# Altium integrated library Linear Technology Power Management Battery Management.IntLib: 626 symbols (part 11 of 56)
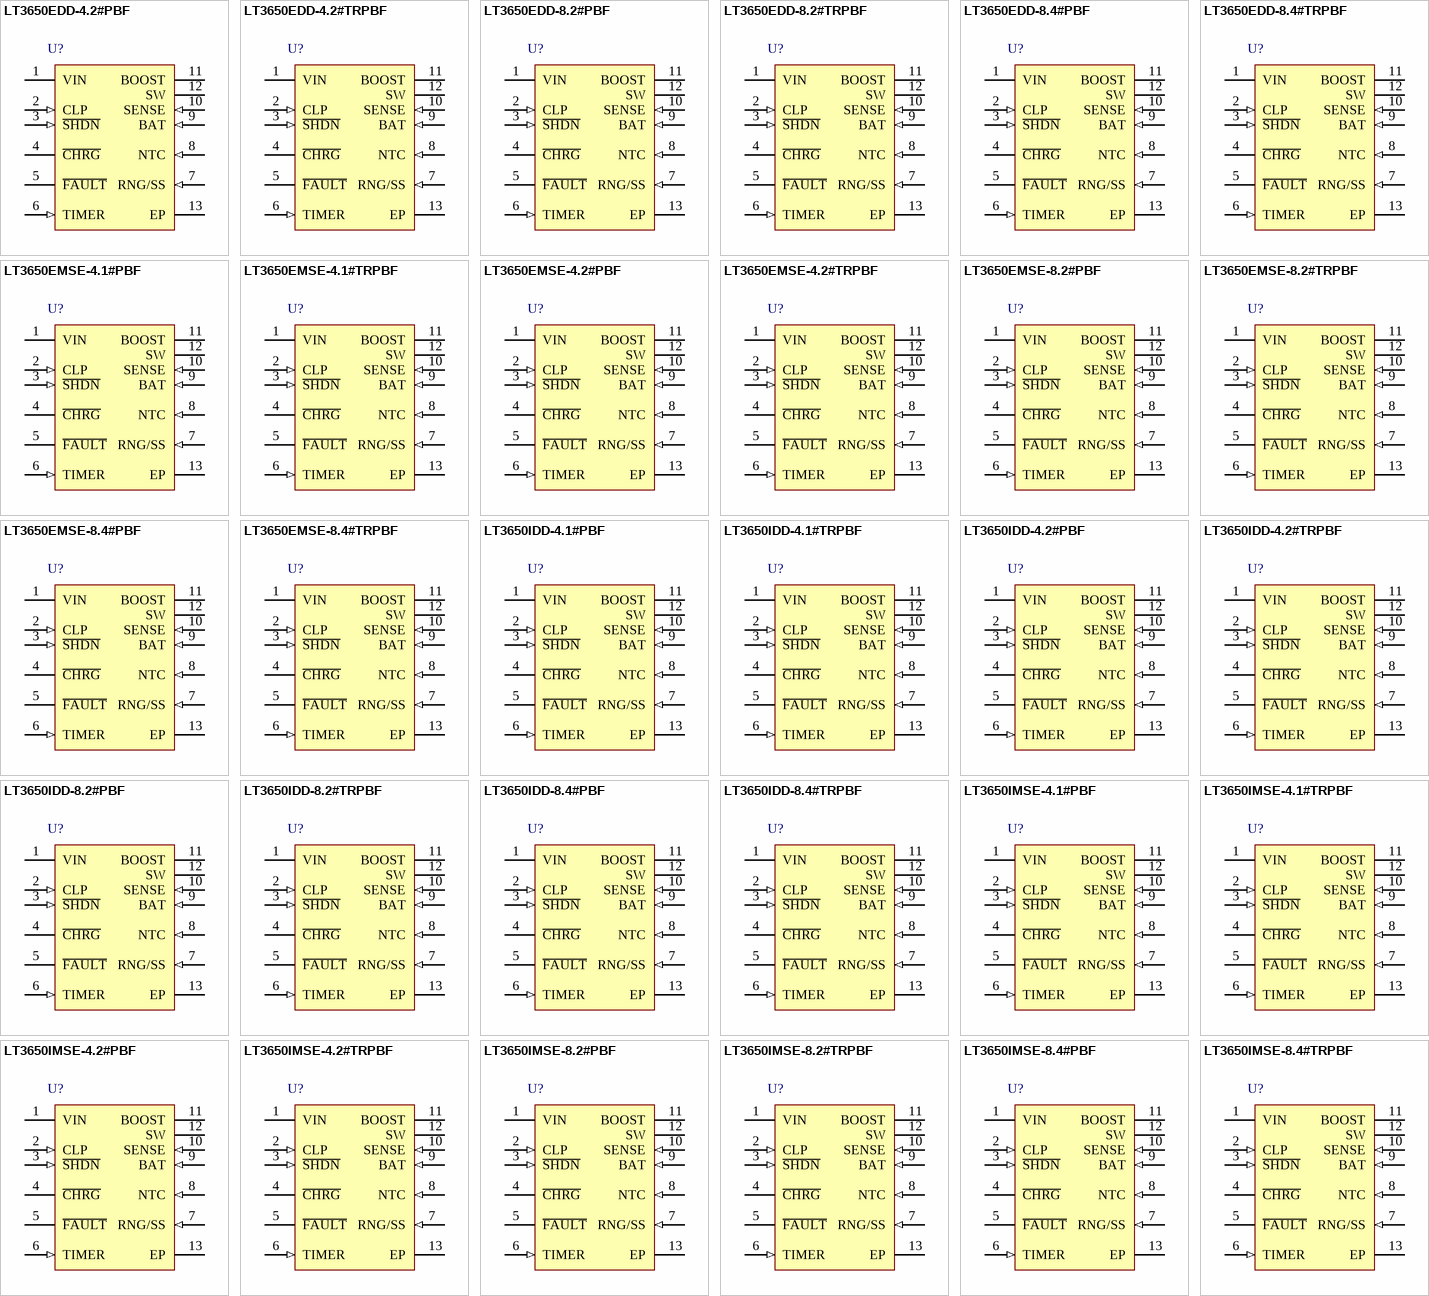
[diagram p32: symbols LT3650EDD-4.2#PBF to LT3650IMSE-8.4#TRPBF]

## LT3650EDD-8.2#PBF
designator U?
High Voltage 2 Amplifier Monolithic 2-Cell Li-Ion Battery Charger, 9 to 32 V Vin, 12-pin SON (DD-12), -40 to 85 degC, Pb-Free; Manufacturer: Linear Technology; PartNumber: LT3650EDD-8.2#PBF; Battery Chemistry: Li-Ion, Li-Polymer; Charge Termination: C/10, Timer; Float Voltage: 8.2 V; Max Charge Current(A): 2; Type of Charger: Switching; Vin Max(V): 32; Vin Min(V): 9; DatasheetVersion: Rev. D; PackageVersion: Rev. A, 06/2010; PackageReference: DD-12; PackageDescription: 12-Pin Plastic DFN, Body 3 x 3 mm, Pitch 0.45 mm; Supplier 1: Digi-Key; Supplier Part Number 1: LT3650EDD-8.2#PBF-ND; Supplier 2: Newark; Supplier Part Number 2: 51P3125; Number of Cells: 2; RoHS: TRUE; Mounting Technology: Surface Mount; ComponentLink1Description: Manufacturer URL; ComponentLink1URL: http://www.linear.com/; ComponentLink2Description: Datasheet; ComponentLink2URL: http://cds.linear.com/docs/en/datasheet/36508284fd.pdf; ComponentLink3Description: Package Specification; ComponentLink3URL: http://cds.linear.com/docs/en/packaging/DFN_12_05-08-1725.pdf
footprint LT-DD-12_V (SON, 12-Leads, Body 3x3mm, Pitch 0.45mm, Thermal Pad 2.38x1.65mm)
pins: 1 VIN (power) "Charger Input Supply. VIN pin operating range is 4.75V to 32V. VIN >= 7.5V or (VBOOST - VSW) > 2V is required for start-up. IVIN = 85uA after charge termination", 2 CLP (in) "System Current Limit Input. System current levels can be monitored by connecting the input power supply to the CLP pin and connecting a sense resistor from the CLP pin to the VIN pin. Additional system load is drawn from the (See Datasheet)", 3 ~{SHDN} (in) "Precision Threshold Shutdown Pin. The enable threshold is 1.225V (rising), with 120mV of input hysteresis. When in shutdown mode, all charging functions are disabled. The precision threshold allows use of the S\H\D\N\ pin to (See Datasheet)", 4 ~{CHRG} (hiz) "Open-Collector Charger Status Output; typically pulled up through a resistor to a reference voltage. This status pin can be pulled up to voltages as high as VIN when disabled, and can sink currents up to 10mA when enabled. (See Datasheet)", 5 ~{FAULT} (hiz) "Open-Collector Fault Status Output; typically pulled up through a resistor to a reference voltage. This status pin can be pulled up to voltages as high as VIN when disabled, and can sink currents up to 10mA when enabled. (See Datasheet)", 6 TIMER (in) "End-Of-Cycle Timer Programming Pin. If a timer-based charge termination is desired, connect a capacitor from this pin to ground. Full charge end-ofcycle time (in hours) is programmed with this capacitor following the (See Datasheet)", 7 RNG/SS (in) "Charge Current Programming Pin. This pin allows a dynamic adjustment of the maximum charge current, and can be used to employ a soft-start function. Maximum charge current is adjusted by setting the voltage on this pin, such (See Datasheet)", 8 NTC (in) "Battery Temperature Monitor Pin. This pin is the input to the NTC (negative temperature coefficient) thermistor temperature monitoring circuit. This function is enabled by connecting a 10kohm, B = 3380 NTC thermistor from (See Datasheet)", 9 BAT (in) "Battery Voltage Monitor Pin. Connect 10uF decoupling capacitance (CBAT) from this pin to ground. Depending on application requirements, larger value decoupling capacitors may be required (see the Application Information (See Datasheet)", 10 SENSE (in) "Charge Current Sense Pin. Connect the more positive voltage end of the inductor sense resistor (RSENSE) to the SENSE pin and the other end to the BAT pin. The voltage across this resistor sets the average charge current. The (See Datasheet)", 11 BOOST "Bootstrapped Supply Rail for Switch Drive. This pin facilitates saturation of the switch transistor. Connect a 1uF or greater capacitor from the BOOST pin to the SW pin. Operating range of this pin is 0V to 4.5V, referenced (See Datasheet)", 12 SW (power) "Switch Output Pin. This pin is the output of the charger switch, and corresponds to the emitter of the switch transistor. When enabled, the switch shorts the SW pin to the VIN supply. The drive circuitry for this switch is (See Datasheet)", 13 EP (power) "Ground Reference and Backside Exposed Lead Frame Thermal Connection. Solder the exposed lead frame to the PCB ground plane"

## LT3650EDD-8.2#TRPBF
designator U?
High Voltage 2 Amplifier Monolithic 2-Cell Li-Ion Battery Charger, 9 to 32 V Vin, 12-pin SON (DD-12), -40 to 85 degC, Pb-Free, Tape and Reel; Manufacturer: Linear Technology; PartNumber: LT3650EDD-8.2#TRPBF; Battery Chemistry: Li-Ion, Li-Polymer; Charge Termination: C/10, Timer; Float Voltage: 8.2 V; Max Charge Current(A): 2; Type of Charger: Switching; Vin Max(V): 32; Vin Min(V): 9; DatasheetVersion: Rev. D; PackageVersion: Rev. A, 06/2010; PackageReference: DD-12; PackageDescription: 12-Pin Plastic DFN, Body 3 x 3 mm, Pitch 0.45 mm; Supplier 1: Digi-Key; Supplier Part Number 1: LT3650EDD-8.2#TRPBF-ND; Supplier 2: Newark; Supplier Part Number 2: 56P3101; Number of Cells: 2; Packing: Tape and Reel; RoHS: TRUE; Mounting Technology: Surface Mount; ComponentLink1Description: Manufacturer URL; ComponentLink1URL: http://www.linear.com/; ComponentLink2Description: Datasheet; ComponentLink2URL: http://cds.linear.com/docs/en/datasheet/36508284fd.pdf; ComponentLink3Description: Package Specification; ComponentLink3URL: http://cds.linear.com/docs/en/packaging/DFN_12_05-08-1725.pdf
footprint LT-DD-12_V (SON, 12-Leads, Body 3x3mm, Pitch 0.45mm, Thermal Pad 2.38x1.65mm)
pins: 1 VIN (power) "Charger Input Supply. VIN pin operating range is 4.75V to 32V. VIN >= 7.5V or (VBOOST - VSW) > 2V is required for start-up. IVIN = 85uA after charge termination", 2 CLP (in) "System Current Limit Input. System current levels can be monitored by connecting the input power supply to the CLP pin and connecting a sense resistor from the CLP pin to the VIN pin. Additional system load is drawn from the (See Datasheet)", 3 ~{SHDN} (in) "Precision Threshold Shutdown Pin. The enable threshold is 1.225V (rising), with 120mV of input hysteresis. When in shutdown mode, all charging functions are disabled. The precision threshold allows use of the S\H\D\N\ pin to (See Datasheet)", 4 ~{CHRG} (hiz) "Open-Collector Charger Status Output; typically pulled up through a resistor to a reference voltage. This status pin can be pulled up to voltages as high as VIN when disabled, and can sink currents up to 10mA when enabled. (See Datasheet)", 5 ~{FAULT} (hiz) "Open-Collector Fault Status Output; typically pulled up through a resistor to a reference voltage. This status pin can be pulled up to voltages as high as VIN when disabled, and can sink currents up to 10mA when enabled. (See Datasheet)", 6 TIMER (in) "End-Of-Cycle Timer Programming Pin. If a timer-based charge termination is desired, connect a capacitor from this pin to ground. Full charge end-ofcycle time (in hours) is programmed with this capacitor following the (See Datasheet)", 7 RNG/SS (in) "Charge Current Programming Pin. This pin allows a dynamic adjustment of the maximum charge current, and can be used to employ a soft-start function. Maximum charge current is adjusted by setting the voltage on this pin, such (See Datasheet)", 8 NTC (in) "Battery Temperature Monitor Pin. This pin is the input to the NTC (negative temperature coefficient) thermistor temperature monitoring circuit. This function is enabled by connecting a 10kohm, B = 3380 NTC thermistor from (See Datasheet)", 9 BAT (in) "Battery Voltage Monitor Pin. Connect 10uF decoupling capacitance (CBAT) from this pin to ground. Depending on application requirements, larger value decoupling capacitors may be required (see the Application Information (See Datasheet)", 10 SENSE (in) "Charge Current Sense Pin. Connect the more positive voltage end of the inductor sense resistor (RSENSE) to the SENSE pin and the other end to the BAT pin. The voltage across this resistor sets the average charge current. The (See Datasheet)", 11 BOOST "Bootstrapped Supply Rail for Switch Drive. This pin facilitates saturation of the switch transistor. Connect a 1uF or greater capacitor from the BOOST pin to the SW pin. Operating range of this pin is 0V to 4.5V, referenced (See Datasheet)", 12 SW (power) "Switch Output Pin. This pin is the output of the charger switch, and corresponds to the emitter of the switch transistor. When enabled, the switch shorts the SW pin to the VIN supply. The drive circuitry for this switch is (See Datasheet)", 13 EP (power) "Ground Reference and Backside Exposed Lead Frame Thermal Connection. Solder the exposed lead frame to the PCB ground plane"

## LT3650EDD-8.4#PBF
designator U?
High Voltage 2 Amplifier Monolithic 2-Cell Li-Ion Battery Charger, 9 to 32 V Vin, 12-pin SON (DD-12), -40 to 85 degC, Pb-Free; Manufacturer: Linear Technology; PartNumber: LT3650EDD-8.4#PBF; Battery Chemistry: Li-Ion, Li-Polymer; Charge Termination: C/10, Timer; Float Voltage: 8.4 V; Max Charge Current(A): 2; Type of Charger: Switching; Vin Max(V): 32; Vin Min(V): 9; DatasheetVersion: Rev. D; PackageVersion: Rev. A, 06/2010; PackageReference: DD-12; PackageDescription: 12-Pin Plastic DFN, Body 3 x 3 mm, Pitch 0.45 mm; Supplier 1: Digi-Key; Supplier Part Number 1: LT3650EDD-8.4#PBF-ND; Supplier 2: Farnell; Supplier Part Number 2: 2295367; Supplier 3: Farnell; Supplier Part Number 3: 1716929; Supplier 4: Newark; Supplier Part Number 4: 08R2340; Number of Cells: 2; RoHS: TRUE; Mounting Technology: Surface Mount; ComponentLink1Description: Manufacturer URL; ComponentLink1URL: http://www.linear.com/; ComponentLink2Description: Datasheet; ComponentLink2URL: http://cds.linear.com/docs/en/datasheet/36508284fd.pdf; ComponentLink3Description: Package Specification; ComponentLink3URL: http://cds.linear.com/docs/en/packaging/DFN_12_05-08-1725.pdf
footprint LT-DD-12_V (SON, 12-Leads, Body 3x3mm, Pitch 0.45mm, Thermal Pad 2.38x1.65mm)
pins: 1 VIN (power) "Charger Input Supply. VIN pin operating range is 4.75V to 32V. VIN >= 7.5V or (VBOOST - VSW) > 2V is required for start-up. IVIN = 85uA after charge termination", 2 CLP (in) "System Current Limit Input. System current levels can be monitored by connecting the input power supply to the CLP pin and connecting a sense resistor from the CLP pin to the VIN pin. Additional system load is drawn from the (See Datasheet)", 3 ~{SHDN} (in) "Precision Threshold Shutdown Pin. The enable threshold is 1.225V (rising), with 120mV of input hysteresis. When in shutdown mode, all charging functions are disabled. The precision threshold allows use of the S\H\D\N\ pin to (See Datasheet)", 4 ~{CHRG} (hiz) "Open-Collector Charger Status Output; typically pulled up through a resistor to a reference voltage. This status pin can be pulled up to voltages as high as VIN when disabled, and can sink currents up to 10mA when enabled. (See Datasheet)", 5 ~{FAULT} (hiz) "Open-Collector Fault Status Output; typically pulled up through a resistor to a reference voltage. This status pin can be pulled up to voltages as high as VIN when disabled, and can sink currents up to 10mA when enabled. (See Datasheet)", 6 TIMER (in) "End-Of-Cycle Timer Programming Pin. If a timer-based charge termination is desired, connect a capacitor from this pin to ground. Full charge end-ofcycle time (in hours) is programmed with this capacitor following the (See Datasheet)", 7 RNG/SS (in) "Charge Current Programming Pin. This pin allows a dynamic adjustment of the maximum charge current, and can be used to employ a soft-start function. Maximum charge current is adjusted by setting the voltage on this pin, such (See Datasheet)", 8 NTC (in) "Battery Temperature Monitor Pin. This pin is the input to the NTC (negative temperature coefficient) thermistor temperature monitoring circuit. This function is enabled by connecting a 10kohm, B = 3380 NTC thermistor from (See Datasheet)", 9 BAT (in) "Battery Voltage Monitor Pin. Connect 10uF decoupling capacitance (CBAT) from this pin to ground. Depending on application requirements, larger value decoupling capacitors may be required (see the Application Information (See Datasheet)", 10 SENSE (in) "Charge Current Sense Pin. Connect the more positive voltage end of the inductor sense resistor (RSENSE) to the SENSE pin and the other end to the BAT pin. The voltage across this resistor sets the average charge current. The (See Datasheet)", 11 BOOST "Bootstrapped Supply Rail for Switch Drive. This pin facilitates saturation of the switch transistor. Connect a 1uF or greater capacitor from the BOOST pin to the SW pin. Operating range of this pin is 0V to 4.5V, referenced (See Datasheet)", 12 SW (power) "Switch Output Pin. This pin is the output of the charger switch, and corresponds to the emitter of the switch transistor. When enabled, the switch shorts the SW pin to the VIN supply. The drive circuitry for this switch is (See Datasheet)", 13 EP (power) "Ground Reference and Backside Exposed Lead Frame Thermal Connection. Solder the exposed lead frame to the PCB ground plane"

## LT3650EDD-8.4#TRPBF
designator U?
High Voltage 2 Amplifier Monolithic 2-Cell Li-Ion Battery Charger, 9 to 32 V Vin, 12-pin SON (DD-12), -40 to 85 degC, Pb-Free, Tape and Reel; Manufacturer: Linear Technology; PartNumber: LT3650EDD-8.4#TRPBF; Battery Chemistry: Li-Ion, Li-Polymer; Charge Termination: C/10, Timer; Float Voltage: 8.4 V; Max Charge Current(A): 2; Type of Charger: Switching; Vin Max(V): 32; Vin Min(V): 9; DatasheetVersion: Rev. D; PackageVersion: Rev. A, 06/2010; PackageReference: DD-12; PackageDescription: 12-Pin Plastic DFN, Body 3 x 3 mm, Pitch 0.45 mm; Supplier 1: Digi-Key; Supplier Part Number 1: LT3650EDD-8.4#TRPBF-ND; Supplier 2: Newark; Supplier Part Number 2: 24R8709; Number of Cells: 2; Packing: Tape and Reel; RoHS: TRUE; Mounting Technology: Surface Mount; ComponentLink1Description: Manufacturer URL; ComponentLink1URL: http://www.linear.com/; ComponentLink2Description: Datasheet; ComponentLink2URL: http://cds.linear.com/docs/en/datasheet/36508284fd.pdf; ComponentLink3Description: Package Specification; ComponentLink3URL: http://cds.linear.com/docs/en/packaging/DFN_12_05-08-1725.pdf
footprint LT-DD-12_V (SON, 12-Leads, Body 3x3mm, Pitch 0.45mm, Thermal Pad 2.38x1.65mm)
pins: 1 VIN (power) "Charger Input Supply. VIN pin operating range is 4.75V to 32V. VIN >= 7.5V or (VBOOST - VSW) > 2V is required for start-up. IVIN = 85uA after charge termination", 2 CLP (in) "System Current Limit Input. System current levels can be monitored by connecting the input power supply to the CLP pin and connecting a sense resistor from the CLP pin to the VIN pin. Additional system load is drawn from the (See Datasheet)", 3 ~{SHDN} (in) "Precision Threshold Shutdown Pin. The enable threshold is 1.225V (rising), with 120mV of input hysteresis. When in shutdown mode, all charging functions are disabled. The precision threshold allows use of the S\H\D\N\ pin to (See Datasheet)", 4 ~{CHRG} (hiz) "Open-Collector Charger Status Output; typically pulled up through a resistor to a reference voltage. This status pin can be pulled up to voltages as high as VIN when disabled, and can sink currents up to 10mA when enabled. (See Datasheet)", 5 ~{FAULT} (hiz) "Open-Collector Fault Status Output; typically pulled up through a resistor to a reference voltage. This status pin can be pulled up to voltages as high as VIN when disabled, and can sink currents up to 10mA when enabled. (See Datasheet)", 6 TIMER (in) "End-Of-Cycle Timer Programming Pin. If a timer-based charge termination is desired, connect a capacitor from this pin to ground. Full charge end-ofcycle time (in hours) is programmed with this capacitor following the (See Datasheet)", 7 RNG/SS (in) "Charge Current Programming Pin. This pin allows a dynamic adjustment of the maximum charge current, and can be used to employ a soft-start function. Maximum charge current is adjusted by setting the voltage on this pin, such (See Datasheet)", 8 NTC (in) "Battery Temperature Monitor Pin. This pin is the input to the NTC (negative temperature coefficient) thermistor temperature monitoring circuit. This function is enabled by connecting a 10kohm, B = 3380 NTC thermistor from (See Datasheet)", 9 BAT (in) "Battery Voltage Monitor Pin. Connect 10uF decoupling capacitance (CBAT) from this pin to ground. Depending on application requirements, larger value decoupling capacitors may be required (see the Application Information (See Datasheet)", 10 SENSE (in) "Charge Current Sense Pin. Connect the more positive voltage end of the inductor sense resistor (RSENSE) to the SENSE pin and the other end to the BAT pin. The voltage across this resistor sets the average charge current. The (See Datasheet)", 11 BOOST "Bootstrapped Supply Rail for Switch Drive. This pin facilitates saturation of the switch transistor. Connect a 1uF or greater capacitor from the BOOST pin to the SW pin. Operating range of this pin is 0V to 4.5V, referenced (See Datasheet)", 12 SW (power) "Switch Output Pin. This pin is the output of the charger switch, and corresponds to the emitter of the switch transistor. When enabled, the switch shorts the SW pin to the VIN supply. The drive circuitry for this switch is (See Datasheet)", 13 EP (power) "Ground Reference and Backside Exposed Lead Frame Thermal Connection. Solder the exposed lead frame to the PCB ground plane"

## LT3650EMSE-4.1#PBF
designator U?
High Voltage 2 Amplifier Monolithic 1-Cell Li-Ion Battery Charger, 4.75 to 32 V Vin, 12-pin SOP (MSE-12-EDP), -40 to 85 degC, Pb-Free; Manufacturer: Linear Technology; PartNumber: LT3650EMSE-4.1#PBF; Battery Chemistry: Li-Ion, Li-Polymer; Charge Termination: C/10, Timer; Float Voltage: 4.1 V; Max Charge Current(A): 2; Number of Cells: 1; Type of Charger: Switching; Vin Max(V): 32; Vin Min(V): 4.75; DatasheetVersion: Rev. C; PackageVersion: Rev. G, 05/2013; PackageReference: MSE-12-EDP; PackageDescription: 12-Pin Plastic MSOP, Exposed Die Pad, Body 4.039 x 3 mm, Pitch 0.65 mm; Supplier 1: Digi-Key; Supplier Part Number 1: LT3650EMSE-4.1#PBF-ND; Supplier 2: Newark; Supplier Part Number 2: 13T8456; RoHS: TRUE; Mounting Technology: Surface Mount; ComponentLink1Description: Manufacturer URL; ComponentLink1URL: http://www.linear.com/; ComponentLink2Description: Datasheet; ComponentLink2URL: http://cds.linear.com/docs/en/datasheet/36504142fc.pdf; ComponentLink3Description: Package Specification; ComponentLink3URL: http://cds.linear.com/docs/en/packaging/05081666_G_MSE12.pdf
footprint LT-MSE-12-EDP_N (SOP, 12-Leads, Body 4.1x3.1mm, Pitch 0.65mm, Thermal Pad 2.95x1.76mm, IPC Medium Density)
footprint LT-MSE-12-EDP_L (SOP, 12-Leads, Body 4.1x3.1mm, Pitch 0.65mm, Thermal Pad 2.95x1.76mm, IPC High Density)
footprint LT-MSE-12-EDP_M (SOP, 12-Leads, Body 4.1x3.1mm, Pitch 0.65mm, Thermal Pad 2.95x1.76mm, IPC Low Density)
pins: 1 VIN (power) "Charger Input Supply. VIN pin operating range is 4.75V to 32V. VIN >= 7.5V or (VBOOST - VSW) > 2V is required for start-up. IVIN = 85uA after charge termination", 2 CLP (in) "System Current Limit Input. System current levels can be monitored by connecting the input power supply to the CLP pin and connecting a sense resistor from the CLP pin to the VIN pin. Additional system load is drawn from the (See Datasheet)", 3 ~{SHDN} (in) "Precision Threshold Shutdown Pin. The enable threshold is 1.225V (rising), with 120mV of input hysteresis. When in shutdown mode, all charging functions are disabled. The precision threshold allows use of the S\H\D\N\ pin to (See Datasheet)", 4 ~{CHRG} (hiz) "Open-Collector Charger Status Output; typically pulled up through a resistor to a reference voltage. This status pin can be pulled up to voltages as high as VIN when disabled, and can sink currents up to 10mA when enabled. (See Datasheet)", 5 ~{FAULT} (hiz) "Open-Collector Fault Status Output; typically pulled up through a resistor to a reference voltage. This status pin can be pulled up to voltages as high as VIN when disabled, and can sink currents up to 10mA when enabled. (See Datasheet)", 6 TIMER (in) "End-Of-Cycle Timer Programming Pin. If a timer-based charge termination is desired, connect a capacitor from this pin to ground. Full charge end-ofcycle time (in hours) is programmed with this capacitor following the (See Datasheet)", 7 RNG/SS (in) "Charge Current Programming Pin. This pin allows a dynamic adjustment of the maximum charge current, and can be used to employ a soft-start function. Maximum charge current is adjusted by setting the voltage on this pin, such (See Datasheet)", 8 NTC (in) "Battery Temperature Monitor Pin. This pin is the input to the NTC (negative temperature coefficient) thermistor temperature monitoring circuit. This function is enabled by connecting a 10kohm, B = 3380 NTC thermistor from (See Datasheet)", 9 BAT (in) "Battery Voltage Monitor Pin. Connect 10uF decoupling capacitance (CBAT) from this pin to ground. Depending on application requirements, larger value decoupling capacitors may be required (see the Application Information (See Datasheet)", 10 SENSE (in) "Charge Current Sense Pin. Connect the more positive voltage end of the inductor sense resistor (RSENSE) to the SENSE pin and the other end to the BAT pin. The voltage across this resistor sets the average charge current. The (See Datasheet)", 11 BOOST "Bootstrapped Supply Rail for Switch Drive. This pin facilitates saturation of the switch transistor. Connect a 1uF or greater capacitor from the BOOST pin to the SW pin. Operating range of this pin is 0V to 4.5V, referenced (See Datasheet)", 12 SW (power) "Switch Output Pin. This pin is the output of the charger switch, and corresponds to the emitter of the switch transistor. When enabled, the switch shorts the SW pin to the VIN supply. The drive circuitry for this switch is (See Datasheet)", 13 EP (power) "Ground Reference and Backside Exposed Lead Frame Thermal Connection. Solder the exposed lead frame to the PCB ground plane"

## LT3650EMSE-4.1#TRPBF
designator U?
High Voltage 2 Amplifier Monolithic 1-Cell Li-Ion Battery Charger, 4.75 to 32 V Vin, 12-pin SOP (MSE-12-EDP), -40 to 85 degC, Pb-Free, Tape and Reel; Manufacturer: Linear Technology; PartNumber: LT3650EMSE-4.1#TRPBF; Battery Chemistry: Li-Ion, Li-Polymer; Charge Termination: C/10, Timer; Float Voltage: 4.1 V; Max Charge Current(A): 2; Number of Cells: 1; Type of Charger: Switching; Vin Max(V): 32; Vin Min(V): 4.75; DatasheetVersion: Rev. C; PackageVersion: Rev. G, 05/2013; PackageReference: MSE-12-EDP; PackageDescription: 12-Pin Plastic MSOP, Exposed Die Pad, Body 4.039 x 3 mm, Pitch 0.65 mm; Supplier 1: Digi-Key; Supplier Part Number 1: LT3650EMSE-4.1#TRPBF-ND; Packing: Tape and Reel; RoHS: TRUE; Mounting Technology: Surface Mount; ComponentLink1Description: Manufacturer URL; ComponentLink1URL: http://www.linear.com/; ComponentLink2Description: Datasheet; ComponentLink2URL: http://cds.linear.com/docs/en/datasheet/36504142fc.pdf; ComponentLink3Description: Package Specification; ComponentLink3URL: http://cds.linear.com/docs/en/packaging/05081666_G_MSE12.pdf
footprint LT-MSE-12-EDP_N (SOP, 12-Leads, Body 4.1x3.1mm, Pitch 0.65mm, Thermal Pad 2.95x1.76mm, IPC Medium Density)
footprint LT-MSE-12-EDP_L (SOP, 12-Leads, Body 4.1x3.1mm, Pitch 0.65mm, Thermal Pad 2.95x1.76mm, IPC High Density)
footprint LT-MSE-12-EDP_M (SOP, 12-Leads, Body 4.1x3.1mm, Pitch 0.65mm, Thermal Pad 2.95x1.76mm, IPC Low Density)
pins: 1 VIN (power) "Charger Input Supply. VIN pin operating range is 4.75V to 32V. VIN >= 7.5V or (VBOOST - VSW) > 2V is required for start-up. IVIN = 85uA after charge termination", 2 CLP (in) "System Current Limit Input. System current levels can be monitored by connecting the input power supply to the CLP pin and connecting a sense resistor from the CLP pin to the VIN pin. Additional system load is drawn from the (See Datasheet)", 3 ~{SHDN} (in) "Precision Threshold Shutdown Pin. The enable threshold is 1.225V (rising), with 120mV of input hysteresis. When in shutdown mode, all charging functions are disabled. The precision threshold allows use of the S\H\D\N\ pin to (See Datasheet)", 4 ~{CHRG} (hiz) "Open-Collector Charger Status Output; typically pulled up through a resistor to a reference voltage. This status pin can be pulled up to voltages as high as VIN when disabled, and can sink currents up to 10mA when enabled. (See Datasheet)", 5 ~{FAULT} (hiz) "Open-Collector Fault Status Output; typically pulled up through a resistor to a reference voltage. This status pin can be pulled up to voltages as high as VIN when disabled, and can sink currents up to 10mA when enabled. (See Datasheet)", 6 TIMER (in) "End-Of-Cycle Timer Programming Pin. If a timer-based charge termination is desired, connect a capacitor from this pin to ground. Full charge end-ofcycle time (in hours) is programmed with this capacitor following the (See Datasheet)", 7 RNG/SS (in) "Charge Current Programming Pin. This pin allows a dynamic adjustment of the maximum charge current, and can be used to employ a soft-start function. Maximum charge current is adjusted by setting the voltage on this pin, such (See Datasheet)", 8 NTC (in) "Battery Temperature Monitor Pin. This pin is the input to the NTC (negative temperature coefficient) thermistor temperature monitoring circuit. This function is enabled by connecting a 10kohm, B = 3380 NTC thermistor from (See Datasheet)", 9 BAT (in) "Battery Voltage Monitor Pin. Connect 10uF decoupling capacitance (CBAT) from this pin to ground. Depending on application requirements, larger value decoupling capacitors may be required (see the Application Information (See Datasheet)", 10 SENSE (in) "Charge Current Sense Pin. Connect the more positive voltage end of the inductor sense resistor (RSENSE) to the SENSE pin and the other end to the BAT pin. The voltage across this resistor sets the average charge current. The (See Datasheet)", 11 BOOST "Bootstrapped Supply Rail for Switch Drive. This pin facilitates saturation of the switch transistor. Connect a 1uF or greater capacitor from the BOOST pin to the SW pin. Operating range of this pin is 0V to 4.5V, referenced (See Datasheet)", 12 SW (power) "Switch Output Pin. This pin is the output of the charger switch, and corresponds to the emitter of the switch transistor. When enabled, the switch shorts the SW pin to the VIN supply. The drive circuitry for this switch is (See Datasheet)", 13 EP (power) "Ground Reference and Backside Exposed Lead Frame Thermal Connection. Solder the exposed lead frame to the PCB ground plane"

## LT3650EMSE-4.2#PBF
designator U?
High Voltage 2 Amplifier Monolithic 1-Cell Li-Ion Battery Charger, 4.75 to 32 V Vin, 12-pin SOP (MSE-12-EDP), -40 to 85 degC, Pb-Free; Manufacturer: Linear Technology; PartNumber: LT3650EMSE-4.2#PBF; Battery Chemistry: Li-Ion, Li-Polymer; Charge Termination: C/10, Timer; Float Voltage: 4.2 V; Max Charge Current(A): 2; Number of Cells: 1; Type of Charger: Switching; Vin Max(V): 32; Vin Min(V): 4.75; DatasheetVersion: Rev. C; PackageVersion: Rev. G, 05/2013; PackageReference: MSE-12-EDP; PackageDescription: 12-Pin Plastic MSOP, Exposed Die Pad, Body 4.039 x 3 mm, Pitch 0.65 mm; Supplier 1: Digi-Key; Supplier Part Number 1: LT3650EMSE-4.2#PBF-ND; Supplier 2: Farnell; Supplier Part Number 2: 2295368; Supplier 3: Newark; Supplier Part Number 3: 13T8458; RoHS: TRUE; Mounting Technology: Surface Mount; ComponentLink1Description: Manufacturer URL; ComponentLink1URL: http://www.linear.com/; ComponentLink2Description: Datasheet; ComponentLink2URL: http://cds.linear.com/docs/en/datasheet/36504142fc.pdf; ComponentLink3Description: Package Specification; ComponentLink3URL: http://cds.linear.com/docs/en/packaging/05081666_G_MSE12.pdf
footprint LT-MSE-12-EDP_N (SOP, 12-Leads, Body 4.1x3.1mm, Pitch 0.65mm, Thermal Pad 2.95x1.76mm, IPC Medium Density)
footprint LT-MSE-12-EDP_L (SOP, 12-Leads, Body 4.1x3.1mm, Pitch 0.65mm, Thermal Pad 2.95x1.76mm, IPC High Density)
footprint LT-MSE-12-EDP_M (SOP, 12-Leads, Body 4.1x3.1mm, Pitch 0.65mm, Thermal Pad 2.95x1.76mm, IPC Low Density)
pins: 1 VIN (power) "Charger Input Supply. VIN pin operating range is 4.75V to 32V. VIN >= 7.5V or (VBOOST - VSW) > 2V is required for start-up. IVIN = 85uA after charge termination", 2 CLP (in) "System Current Limit Input. System current levels can be monitored by connecting the input power supply to the CLP pin and connecting a sense resistor from the CLP pin to the VIN pin. Additional system load is drawn from the (See Datasheet)", 3 ~{SHDN} (in) "Precision Threshold Shutdown Pin. The enable threshold is 1.225V (rising), with 120mV of input hysteresis. When in shutdown mode, all charging functions are disabled. The precision threshold allows use of the S\H\D\N\ pin to (See Datasheet)", 4 ~{CHRG} (hiz) "Open-Collector Charger Status Output; typically pulled up through a resistor to a reference voltage. This status pin can be pulled up to voltages as high as VIN when disabled, and can sink currents up to 10mA when enabled. (See Datasheet)", 5 ~{FAULT} (hiz) "Open-Collector Fault Status Output; typically pulled up through a resistor to a reference voltage. This status pin can be pulled up to voltages as high as VIN when disabled, and can sink currents up to 10mA when enabled. (See Datasheet)", 6 TIMER (in) "End-Of-Cycle Timer Programming Pin. If a timer-based charge termination is desired, connect a capacitor from this pin to ground. Full charge end-ofcycle time (in hours) is programmed with this capacitor following the (See Datasheet)", 7 RNG/SS (in) "Charge Current Programming Pin. This pin allows a dynamic adjustment of the maximum charge current, and can be used to employ a soft-start function. Maximum charge current is adjusted by setting the voltage on this pin, such (See Datasheet)", 8 NTC (in) "Battery Temperature Monitor Pin. This pin is the input to the NTC (negative temperature coefficient) thermistor temperature monitoring circuit. This function is enabled by connecting a 10kohm, B = 3380 NTC thermistor from (See Datasheet)", 9 BAT (in) "Battery Voltage Monitor Pin. Connect 10uF decoupling capacitance (CBAT) from this pin to ground. Depending on application requirements, larger value decoupling capacitors may be required (see the Application Information (See Datasheet)", 10 SENSE (in) "Charge Current Sense Pin. Connect the more positive voltage end of the inductor sense resistor (RSENSE) to the SENSE pin and the other end to the BAT pin. The voltage across this resistor sets the average charge current. The (See Datasheet)", 11 BOOST "Bootstrapped Supply Rail for Switch Drive. This pin facilitates saturation of the switch transistor. Connect a 1uF or greater capacitor from the BOOST pin to the SW pin. Operating range of this pin is 0V to 4.5V, referenced (See Datasheet)", 12 SW (power) "Switch Output Pin. This pin is the output of the charger switch, and corresponds to the emitter of the switch transistor. When enabled, the switch shorts the SW pin to the VIN supply. The drive circuitry for this switch is (See Datasheet)", 13 EP (power) "Ground Reference and Backside Exposed Lead Frame Thermal Connection. Solder the exposed lead frame to the PCB ground plane"

## LT3650EMSE-4.2#TRPBF
designator U?
High Voltage 2 Amplifier Monolithic 1-Cell Li-Ion Battery Charger, 4.75 to 32 V Vin, 12-pin SOP (MSE-12-EDP), -40 to 85 degC, Pb-Free, Tape and Reel; Manufacturer: Linear Technology; PartNumber: LT3650EMSE-4.2#TRPBF; Battery Chemistry: Li-Ion, Li-Polymer; Charge Termination: C/10, Timer; Float Voltage: 4.2 V; Max Charge Current(A): 2; Number of Cells: 1; Type of Charger: Switching; Vin Max(V): 32; Vin Min(V): 4.75; DatasheetVersion: Rev. C; PackageVersion: Rev. G, 05/2013; PackageReference: MSE-12-EDP; PackageDescription: 12-Pin Plastic MSOP, Exposed Die Pad, Body 4.039 x 3 mm, Pitch 0.65 mm; Supplier 1: Digi-Key; Supplier Part Number 1: LT3650EMSE-4.2#TRPBF-ND; Packing: Tape and Reel; RoHS: TRUE; Mounting Technology: Surface Mount; ComponentLink1Description: Manufacturer URL; ComponentLink1URL: http://www.linear.com/; ComponentLink2Description: Datasheet; ComponentLink2URL: http://cds.linear.com/docs/en/datasheet/36504142fc.pdf; ComponentLink3Description: Package Specification; ComponentLink3URL: http://cds.linear.com/docs/en/packaging/05081666_G_MSE12.pdf
footprint LT-MSE-12-EDP_N (SOP, 12-Leads, Body 4.1x3.1mm, Pitch 0.65mm, Thermal Pad 2.95x1.76mm, IPC Medium Density)
footprint LT-MSE-12-EDP_L (SOP, 12-Leads, Body 4.1x3.1mm, Pitch 0.65mm, Thermal Pad 2.95x1.76mm, IPC High Density)
footprint LT-MSE-12-EDP_M (SOP, 12-Leads, Body 4.1x3.1mm, Pitch 0.65mm, Thermal Pad 2.95x1.76mm, IPC Low Density)
pins: 1 VIN (power) "Charger Input Supply. VIN pin operating range is 4.75V to 32V. VIN >= 7.5V or (VBOOST - VSW) > 2V is required for start-up. IVIN = 85uA after charge termination", 2 CLP (in) "System Current Limit Input. System current levels can be monitored by connecting the input power supply to the CLP pin and connecting a sense resistor from the CLP pin to the VIN pin. Additional system load is drawn from the (See Datasheet)", 3 ~{SHDN} (in) "Precision Threshold Shutdown Pin. The enable threshold is 1.225V (rising), with 120mV of input hysteresis. When in shutdown mode, all charging functions are disabled. The precision threshold allows use of the S\H\D\N\ pin to (See Datasheet)", 4 ~{CHRG} (hiz) "Open-Collector Charger Status Output; typically pulled up through a resistor to a reference voltage. This status pin can be pulled up to voltages as high as VIN when disabled, and can sink currents up to 10mA when enabled. (See Datasheet)", 5 ~{FAULT} (hiz) "Open-Collector Fault Status Output; typically pulled up through a resistor to a reference voltage. This status pin can be pulled up to voltages as high as VIN when disabled, and can sink currents up to 10mA when enabled. (See Datasheet)", 6 TIMER (in) "End-Of-Cycle Timer Programming Pin. If a timer-based charge termination is desired, connect a capacitor from this pin to ground. Full charge end-ofcycle time (in hours) is programmed with this capacitor following the (See Datasheet)", 7 RNG/SS (in) "Charge Current Programming Pin. This pin allows a dynamic adjustment of the maximum charge current, and can be used to employ a soft-start function. Maximum charge current is adjusted by setting the voltage on this pin, such (See Datasheet)", 8 NTC (in) "Battery Temperature Monitor Pin. This pin is the input to the NTC (negative temperature coefficient) thermistor temperature monitoring circuit. This function is enabled by connecting a 10kohm, B = 3380 NTC thermistor from (See Datasheet)", 9 BAT (in) "Battery Voltage Monitor Pin. Connect 10uF decoupling capacitance (CBAT) from this pin to ground. Depending on application requirements, larger value decoupling capacitors may be required (see the Application Information (See Datasheet)", 10 SENSE (in) "Charge Current Sense Pin. Connect the more positive voltage end of the inductor sense resistor (RSENSE) to the SENSE pin and the other end to the BAT pin. The voltage across this resistor sets the average charge current. The (See Datasheet)", 11 BOOST "Bootstrapped Supply Rail for Switch Drive. This pin facilitates saturation of the switch transistor. Connect a 1uF or greater capacitor from the BOOST pin to the SW pin. Operating range of this pin is 0V to 4.5V, referenced (See Datasheet)", 12 SW (power) "Switch Output Pin. This pin is the output of the charger switch, and corresponds to the emitter of the switch transistor. When enabled, the switch shorts the SW pin to the VIN supply. The drive circuitry for this switch is (See Datasheet)", 13 EP (power) "Ground Reference and Backside Exposed Lead Frame Thermal Connection. Solder the exposed lead frame to the PCB ground plane"

## LT3650EMSE-8.2#PBF
designator U?
High Voltage 2 Amplifier Monolithic 2-Cell Li-Ion Battery Charger, 9 to 32 V Vin, 12-pin SOP (MSE-12-EDP), -40 to 85 degC, Pb-Free; Manufacturer: Linear Technology; PartNumber: LT3650EMSE-8.2#PBF; Battery Chemistry: Li-Ion, Li-Polymer; Charge Termination: C/10, Timer; Float Voltage: 8.2 V; Max Charge Current(A): 2; Type of Charger: Switching; Vin Max(V): 32; Vin Min(V): 9; DatasheetVersion: Rev. D; PackageVersion: Rev. G, 05/2013; PackageReference: MSE-12-EDP; PackageDescription: 12-Pin Plastic MSOP, Exposed Die Pad, Body 4.039 x 3 mm, Pitch 0.65 mm; Supplier 1: Digi-Key; Supplier Part Number 1: LT3650EMSE-8.2#PBF-ND; Number of Cells: 2; RoHS: TRUE; Mounting Technology: Surface Mount; ComponentLink1Description: Manufacturer URL; ComponentLink1URL: http://www.linear.com/; ComponentLink2Description: Datasheet; ComponentLink2URL: http://cds.linear.com/docs/en/datasheet/36508284fd.pdf; ComponentLink3Description: Package Specification; ComponentLink3URL: http://cds.linear.com/docs/en/packaging/05081666_G_MSE12.pdf
footprint LT-MSE-12-EDP_N (SOP, 12-Leads, Body 4.1x3.1mm, Pitch 0.65mm, Thermal Pad 2.95x1.76mm, IPC Medium Density)
footprint LT-MSE-12-EDP_L (SOP, 12-Leads, Body 4.1x3.1mm, Pitch 0.65mm, Thermal Pad 2.95x1.76mm, IPC High Density)
footprint LT-MSE-12-EDP_M (SOP, 12-Leads, Body 4.1x3.1mm, Pitch 0.65mm, Thermal Pad 2.95x1.76mm, IPC Low Density)
pins: 1 VIN (power) "Charger Input Supply. VIN pin operating range is 4.75V to 32V. VIN >= 7.5V or (VBOOST - VSW) > 2V is required for start-up. IVIN = 85uA after charge termination", 2 CLP (in) "System Current Limit Input. System current levels can be monitored by connecting the input power supply to the CLP pin and connecting a sense resistor from the CLP pin to the VIN pin. Additional system load is drawn from the (See Datasheet)", 3 ~{SHDN} (in) "Precision Threshold Shutdown Pin. The enable threshold is 1.225V (rising), with 120mV of input hysteresis. When in shutdown mode, all charging functions are disabled. The precision threshold allows use of the S\H\D\N\ pin to (See Datasheet)", 4 ~{CHRG} (hiz) "Open-Collector Charger Status Output; typically pulled up through a resistor to a reference voltage. This status pin can be pulled up to voltages as high as VIN when disabled, and can sink currents up to 10mA when enabled. (See Datasheet)", 5 ~{FAULT} (hiz) "Open-Collector Fault Status Output; typically pulled up through a resistor to a reference voltage. This status pin can be pulled up to voltages as high as VIN when disabled, and can sink currents up to 10mA when enabled. (See Datasheet)", 6 TIMER (in) "End-Of-Cycle Timer Programming Pin. If a timer-based charge termination is desired, connect a capacitor from this pin to ground. Full charge end-ofcycle time (in hours) is programmed with this capacitor following the (See Datasheet)", 7 RNG/SS (in) "Charge Current Programming Pin. This pin allows a dynamic adjustment of the maximum charge current, and can be used to employ a soft-start function. Maximum charge current is adjusted by setting the voltage on this pin, such (See Datasheet)", 8 NTC (in) "Battery Temperature Monitor Pin. This pin is the input to the NTC (negative temperature coefficient) thermistor temperature monitoring circuit. This function is enabled by connecting a 10kohm, B = 3380 NTC thermistor from (See Datasheet)", 9 BAT (in) "Battery Voltage Monitor Pin. Connect 10uF decoupling capacitance (CBAT) from this pin to ground. Depending on application requirements, larger value decoupling capacitors may be required (see the Application Information (See Datasheet)", 10 SENSE (in) "Charge Current Sense Pin. Connect the more positive voltage end of the inductor sense resistor (RSENSE) to the SENSE pin and the other end to the BAT pin. The voltage across this resistor sets the average charge current. The (See Datasheet)", 11 BOOST "Bootstrapped Supply Rail for Switch Drive. This pin facilitates saturation of the switch transistor. Connect a 1uF or greater capacitor from the BOOST pin to the SW pin. Operating range of this pin is 0V to 4.5V, referenced (See Datasheet)", 12 SW (power) "Switch Output Pin. This pin is the output of the charger switch, and corresponds to the emitter of the switch transistor. When enabled, the switch shorts the SW pin to the VIN supply. The drive circuitry for this switch is (See Datasheet)", 13 EP (power) "Ground Reference and Backside Exposed Lead Frame Thermal Connection. Solder the exposed lead frame to the PCB ground plane"

## LT3650EMSE-8.2#TRPBF
designator U?
High Voltage 2 Amplifier Monolithic 2-Cell Li-Ion Battery Charger, 9 to 32 V Vin, 12-pin SOP (MSE-12-EDP), -40 to 85 degC, Pb-Free, Tape and Reel; Manufacturer: Linear Technology; PartNumber: LT3650EMSE-8.2#TRPBF; Battery Chemistry: Li-Ion, Li-Polymer; Charge Termination: C/10, Timer; Float Voltage: 8.2 V; Max Charge Current(A): 2; Type of Charger: Switching; Vin Max(V): 32; Vin Min(V): 9; DatasheetVersion: Rev. D; PackageVersion: Rev. G, 05/2013; PackageReference: MSE-12-EDP; PackageDescription: 12-Pin Plastic MSOP, Exposed Die Pad, Body 4.039 x 3 mm, Pitch 0.65 mm; Supplier 1: Digi-Key; Supplier Part Number 1: LT3650EMSE-8.2#TRPBF-ND; Supplier 2: Newark; Supplier Part Number 2: 13T8461; Number of Cells: 2; Packing: Tape and Reel; RoHS: TRUE; Mounting Technology: Surface Mount; ComponentLink1Description: Manufacturer URL; ComponentLink1URL: http://www.linear.com/; ComponentLink2Description: Datasheet; ComponentLink2URL: http://cds.linear.com/docs/en/datasheet/36508284fd.pdf; ComponentLink3Description: Package Specification; ComponentLink3URL: http://cds.linear.com/docs/en/packaging/05081666_G_MSE12.pdf
footprint LT-MSE-12-EDP_N (SOP, 12-Leads, Body 4.1x3.1mm, Pitch 0.65mm, Thermal Pad 2.95x1.76mm, IPC Medium Density)
footprint LT-MSE-12-EDP_L (SOP, 12-Leads, Body 4.1x3.1mm, Pitch 0.65mm, Thermal Pad 2.95x1.76mm, IPC High Density)
footprint LT-MSE-12-EDP_M (SOP, 12-Leads, Body 4.1x3.1mm, Pitch 0.65mm, Thermal Pad 2.95x1.76mm, IPC Low Density)
pins: 1 VIN (power) "Charger Input Supply. VIN pin operating range is 4.75V to 32V. VIN >= 7.5V or (VBOOST - VSW) > 2V is required for start-up. IVIN = 85uA after charge termination", 2 CLP (in) "System Current Limit Input. System current levels can be monitored by connecting the input power supply to the CLP pin and connecting a sense resistor from the CLP pin to the VIN pin. Additional system load is drawn from the (See Datasheet)", 3 ~{SHDN} (in) "Precision Threshold Shutdown Pin. The enable threshold is 1.225V (rising), with 120mV of input hysteresis. When in shutdown mode, all charging functions are disabled. The precision threshold allows use of the S\H\D\N\ pin to (See Datasheet)", 4 ~{CHRG} (hiz) "Open-Collector Charger Status Output; typically pulled up through a resistor to a reference voltage. This status pin can be pulled up to voltages as high as VIN when disabled, and can sink currents up to 10mA when enabled. (See Datasheet)", 5 ~{FAULT} (hiz) "Open-Collector Fault Status Output; typically pulled up through a resistor to a reference voltage. This status pin can be pulled up to voltages as high as VIN when disabled, and can sink currents up to 10mA when enabled. (See Datasheet)", 6 TIMER (in) "End-Of-Cycle Timer Programming Pin. If a timer-based charge termination is desired, connect a capacitor from this pin to ground. Full charge end-ofcycle time (in hours) is programmed with this capacitor following the (See Datasheet)", 7 RNG/SS (in) "Charge Current Programming Pin. This pin allows a dynamic adjustment of the maximum charge current, and can be used to employ a soft-start function. Maximum charge current is adjusted by setting the voltage on this pin, such (See Datasheet)", 8 NTC (in) "Battery Temperature Monitor Pin. This pin is the input to the NTC (negative temperature coefficient) thermistor temperature monitoring circuit. This function is enabled by connecting a 10kohm, B = 3380 NTC thermistor from (See Datasheet)", 9 BAT (in) "Battery Voltage Monitor Pin. Connect 10uF decoupling capacitance (CBAT) from this pin to ground. Depending on application requirements, larger value decoupling capacitors may be required (see the Application Information (See Datasheet)", 10 SENSE (in) "Charge Current Sense Pin. Connect the more positive voltage end of the inductor sense resistor (RSENSE) to the SENSE pin and the other end to the BAT pin. The voltage across this resistor sets the average charge current. The (See Datasheet)", 11 BOOST "Bootstrapped Supply Rail for Switch Drive. This pin facilitates saturation of the switch transistor. Connect a 1uF or greater capacitor from the BOOST pin to the SW pin. Operating range of this pin is 0V to 4.5V, referenced (See Datasheet)", 12 SW (power) "Switch Output Pin. This pin is the output of the charger switch, and corresponds to the emitter of the switch transistor. When enabled, the switch shorts the SW pin to the VIN supply. The drive circuitry for this switch is (See Datasheet)", 13 EP (power) "Ground Reference and Backside Exposed Lead Frame Thermal Connection. Solder the exposed lead frame to the PCB ground plane"

## LT3650EMSE-8.4#PBF
designator U?
High Voltage 2 Amplifier Monolithic 2-Cell Li-Ion Battery Charger, 9 to 32 V Vin, 12-pin SOP (MSE-12-EDP), -40 to 85 degC, Pb-Free; Manufacturer: Linear Technology; PartNumber: LT3650EMSE-8.4#PBF; Battery Chemistry: Li-Ion, Li-Polymer; Charge Termination: C/10, Timer; Float Voltage: 8.4 V; Max Charge Current(A): 2; Type of Charger: Switching; Vin Max(V): 32; Vin Min(V): 9; DatasheetVersion: Rev. D; PackageVersion: Rev. G, 05/2013; PackageReference: MSE-12-EDP; PackageDescription: 12-Pin Plastic MSOP, Exposed Die Pad, Body 4.039 x 3 mm, Pitch 0.65 mm; Supplier 1: Digi-Key; Supplier Part Number 1: LT3650EMSE-8.4#PBF-ND; Number of Cells: 2; RoHS: TRUE; Mounting Technology: Surface Mount; ComponentLink1Description: Manufacturer URL; ComponentLink1URL: http://www.linear.com/; ComponentLink2Description: Datasheet; ComponentLink2URL: http://cds.linear.com/docs/en/datasheet/36508284fd.pdf; ComponentLink3Description: Package Specification; ComponentLink3URL: http://cds.linear.com/docs/en/packaging/05081666_G_MSE12.pdf
footprint LT-MSE-12-EDP_N (SOP, 12-Leads, Body 4.1x3.1mm, Pitch 0.65mm, Thermal Pad 2.95x1.76mm, IPC Medium Density)
footprint LT-MSE-12-EDP_L (SOP, 12-Leads, Body 4.1x3.1mm, Pitch 0.65mm, Thermal Pad 2.95x1.76mm, IPC High Density)
footprint LT-MSE-12-EDP_M (SOP, 12-Leads, Body 4.1x3.1mm, Pitch 0.65mm, Thermal Pad 2.95x1.76mm, IPC Low Density)
pins: 1 VIN (power) "Charger Input Supply. VIN pin operating range is 4.75V to 32V. VIN >= 7.5V or (VBOOST - VSW) > 2V is required for start-up. IVIN = 85uA after charge termination", 2 CLP (in) "System Current Limit Input. System current levels can be monitored by connecting the input power supply to the CLP pin and connecting a sense resistor from the CLP pin to the VIN pin. Additional system load is drawn from the (See Datasheet)", 3 ~{SHDN} (in) "Precision Threshold Shutdown Pin. The enable threshold is 1.225V (rising), with 120mV of input hysteresis. When in shutdown mode, all charging functions are disabled. The precision threshold allows use of the S\H\D\N\ pin to (See Datasheet)", 4 ~{CHRG} (hiz) "Open-Collector Charger Status Output; typically pulled up through a resistor to a reference voltage. This status pin can be pulled up to voltages as high as VIN when disabled, and can sink currents up to 10mA when enabled. (See Datasheet)", 5 ~{FAULT} (hiz) "Open-Collector Fault Status Output; typically pulled up through a resistor to a reference voltage. This status pin can be pulled up to voltages as high as VIN when disabled, and can sink currents up to 10mA when enabled. (See Datasheet)", 6 TIMER (in) "End-Of-Cycle Timer Programming Pin. If a timer-based charge termination is desired, connect a capacitor from this pin to ground. Full charge end-ofcycle time (in hours) is programmed with this capacitor following the (See Datasheet)", 7 RNG/SS (in) "Charge Current Programming Pin. This pin allows a dynamic adjustment of the maximum charge current, and can be used to employ a soft-start function. Maximum charge current is adjusted by setting the voltage on this pin, such (See Datasheet)", 8 NTC (in) "Battery Temperature Monitor Pin. This pin is the input to the NTC (negative temperature coefficient) thermistor temperature monitoring circuit. This function is enabled by connecting a 10kohm, B = 3380 NTC thermistor from (See Datasheet)", 9 BAT (in) "Battery Voltage Monitor Pin. Connect 10uF decoupling capacitance (CBAT) from this pin to ground. Depending on application requirements, larger value decoupling capacitors may be required (see the Application Information (See Datasheet)", 10 SENSE (in) "Charge Current Sense Pin. Connect the more positive voltage end of the inductor sense resistor (RSENSE) to the SENSE pin and the other end to the BAT pin. The voltage across this resistor sets the average charge current. The (See Datasheet)", 11 BOOST "Bootstrapped Supply Rail for Switch Drive. This pin facilitates saturation of the switch transistor. Connect a 1uF or greater capacitor from the BOOST pin to the SW pin. Operating range of this pin is 0V to 4.5V, referenced (See Datasheet)", 12 SW (power) "Switch Output Pin. This pin is the output of the charger switch, and corresponds to the emitter of the switch transistor. When enabled, the switch shorts the SW pin to the VIN supply. The drive circuitry for this switch is (See Datasheet)", 13 EP (power) "Ground Reference and Backside Exposed Lead Frame Thermal Connection. Solder the exposed lead frame to the PCB ground plane"